# Altium footprint library HARTING Footprints.PcbLib: 317 footprints (part 10 of 20)
Each footprint in its own frame and in the unit in brackets; x right, y up, seen from the top. Pads: shape width x height; smd on the part's side, far side on the other; paste and mask are expansions set on the pad; w line width, h text height; cw(c..) or ccw(c..) is an arc to the next point about the centre after c.
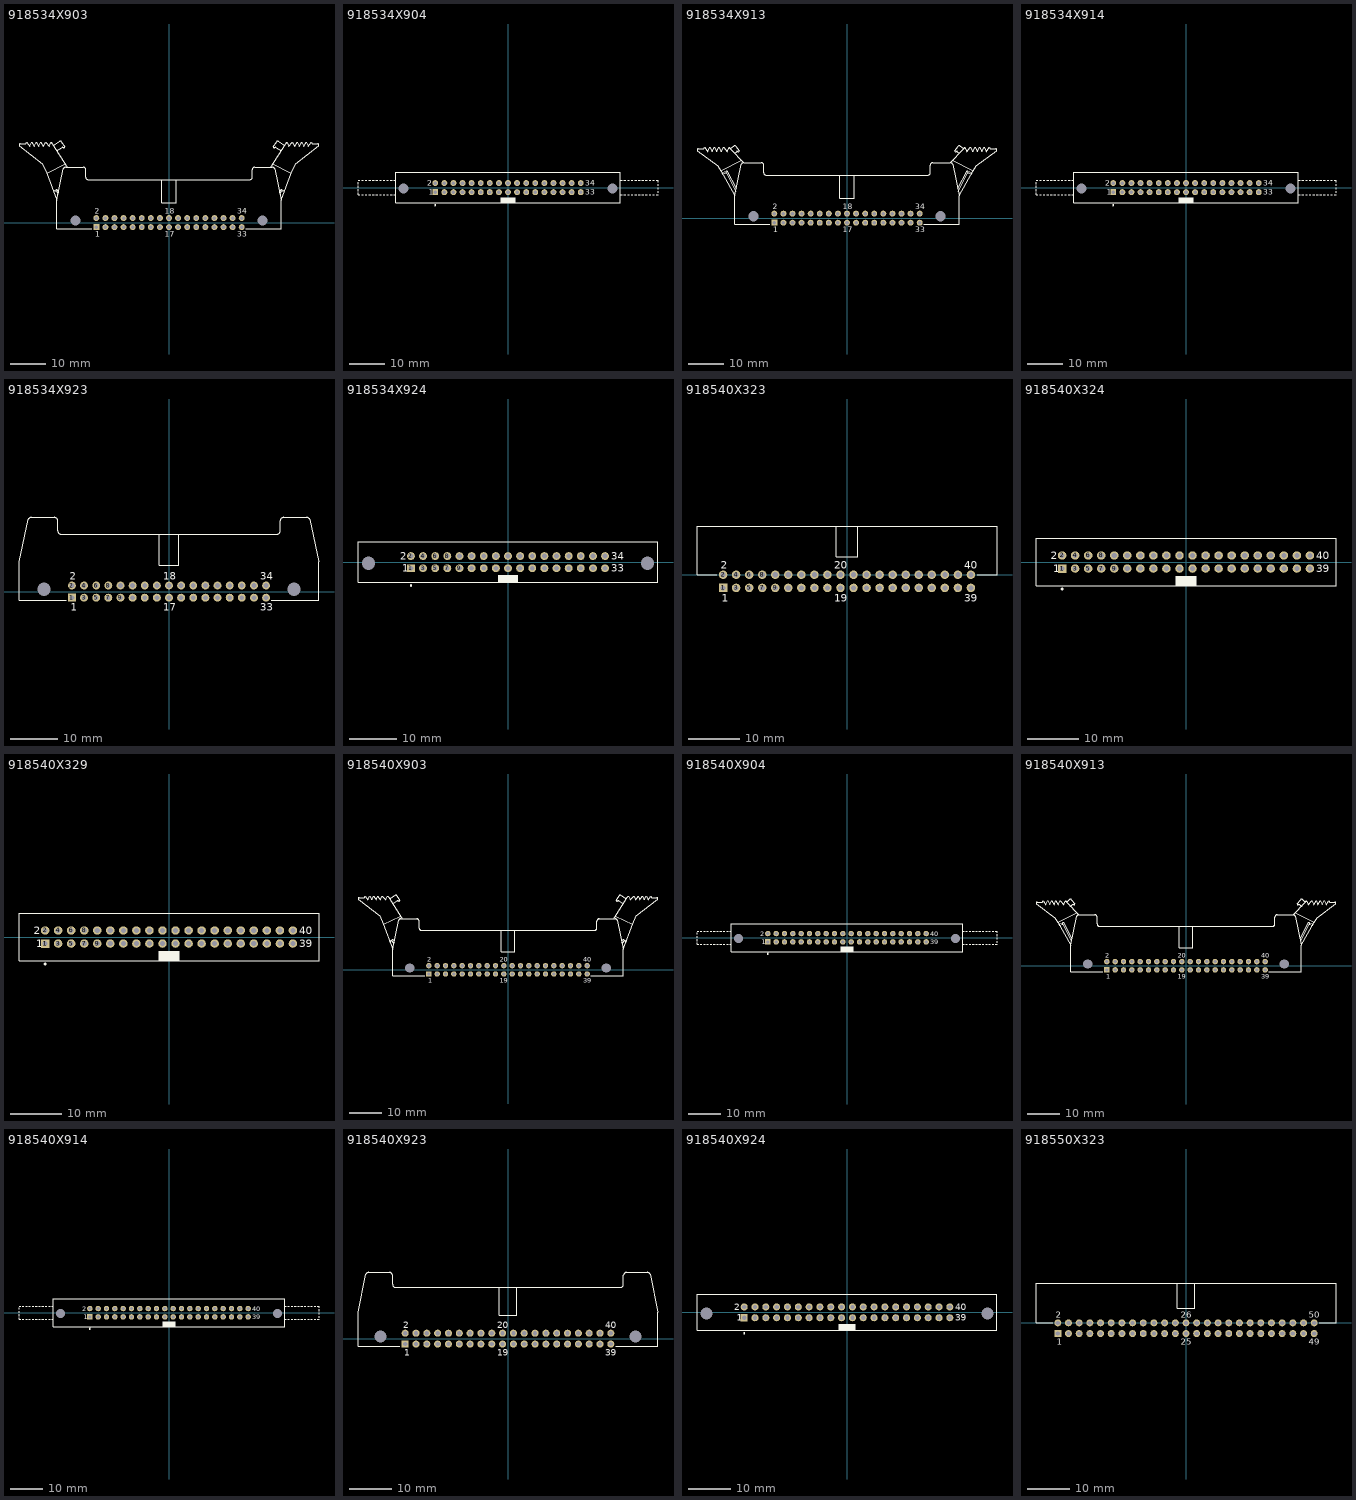
[diagram p9: the footprints below, top view; thin cyan lines are the x and y axes]

## 918534X903 [mm] "Connector; IDC, Thru-Hole; 34 Position; Right Angle; Pitch 2.54 mm; Body 62.80 x 8.5 x 25.75 mm (LxHxW), Locking levers"
height 25.75
pads (36):
  rect 1.65x1.65 hole 1: 1(-20.32,-1.27)
  round 1.65 hole 1: 2(-20.32,1.27) 3(-17.78,-1.27) 4(-17.78,1.27) 5(-15.24,-1.27) 6(-15.24,1.27) 7(-12.7,-1.27) 8(-12.7,1.27) 9(-10.16,-1.27) 10(-10.16,1.27) 11(-7.62,-1.27) 12(-7.62,1.27) 13(-5.08,-1.27) 14(-5.08,1.27) 15(-2.54,-1.27) 16(-2.54,1.27) 17(0,-1.27) 18(0,1.27) 19(2.54,-1.27) 20(2.54,1.27) 21(5.08,-1.27) 22(5.08,1.27) 23(7.62,-1.27) 24(7.62,1.27) 25(10.16,-1.27) 26(10.16,1.27) 27(12.7,-1.27) 28(12.7,1.27) 29(15.24,-1.27) 30(15.24,1.27) 31(17.78,-1.27) 32(17.78,1.27) 33(20.32,-1.27) 34(20.32,1.27)
  round 2.5 hole 2.8 unplated: MH1(-26.16,0.53) MH2(26.16,0.53)
Top Overlay:
  lines w0.2: -32.37,8.851 -31.405,9.3 ; -32.241,8.563 -31.57,8.877 ; -32.235,21.6 -30.512,22.725 cw(c-30.363,22.387) -30.097,22.644 -29.172,21.245 cw(c-29.492,21.225) -29.544,20.91 ccw(c-29.812,20.595) -29.947,20.985 ; -31.313,20.103 -29.95,20.991 ; -31.043,7.925 -31.57,8.877 ; -30.943,8.378 -31.405,9.3 ; -29.015,16.383 -34.239,13.84 ; -28.444,15.53 -32.578,22.058 ccw(c-32.901,21.956) -33.043,22.265 -33.45,21.301 -34.48,22.501 -35.11,21.301 -35.86,22.501 -36.41,21.301 -37.11,22.501 -37.73,21.301 -38.38,22.501 -38.98,21.301 -39.725,22.501 ; -21.545,-1.77 -31.4,-1.77 -31.4,6.23 ; -2.05,5.53 -2.05,12.03 ; -2.04,5.53 2.06,5.53 ; 2.05,5.534 2.05,12.03 ; 21.43,-1.77 31.4,-1.77 31.4,6.23 ; 28.444,15.53 32.578,22.058 cw(c32.901,21.956) 33.043,22.265 33.45,21.301 34.48,22.501 35.11,21.301 35.86,22.501 36.41,21.301 37.11,22.501 37.73,21.301 38.38,22.501 38.98,21.301 39.725,22.501 ; 29.015,16.383 34.239,13.84 ; 29.947,20.985 ccw(c29.812,20.595) 29.544,20.91 cw(c29.492,21.225) 29.172,21.245 30.097,22.644 cw(c30.363,22.387) 30.512,22.725 32.235,21.6 ; 29.95,20.991 31.313,20.103 ; 30.943,8.378 31.405,9.3 ; 31.043,7.925 31.57,8.877 ; 32.241,8.563 31.57,8.877 ; 32.37,8.851 31.405,9.3 ; -39.98,22.03 -39.725,22.501 ; -39.98,22.03 -39.725,22.501 ; -39.98,22.03 -41.591,22.03 ccw(c-41.591,21.69) -41.9,21.549 -35.365,16.455 -34.239,13.84 ; -34.239,13.84 -31.4,6.23 ; -31.57,8.877 -31.405,9.3 ; -31.4,6.23 -29.51,15.102 cw(c-28.865,14.83) -28.85,15.53 -24.005,15.53 cw(c-24.005,14.83) -23.305,14.83 -23.305,12.73 ccw(c-22.605,12.73) -22.605,12.03 22.605,12.03 ccw(c22.605,12.73) 23.305,12.73 23.305,14.83 cw(c24.005,14.83) 24.005,15.53 28.85,15.53 cw(c28.865,14.83) 29.51,15.102 31.4,6.23 ; 31.4,6.23 34.239,13.84 ; 31.405,9.3 31.57,8.877 ; 34.239,13.84 35.365,16.455 41.9,21.549 ccw(c41.591,21.69) 41.591,22.03 39.98,22.03 ; 39.725,22.501 39.98,22.03 ; 39.725,22.501 39.98,22.03
  text "33" at 19.07,-3.97 h1.5
  text "34" at 19.07,2.47 h1.5
  text "1" at -20.57,-3.97 h1.5
  text "2" at -20.82,2.47 h1.5
  text "18" at -1.25,2.47 h1.5
  text "17" at -1.25,-3.97 h1.5

## 918534X904 [mm] "Connector; IDC, Thru-Hole; 34 Position; Vertical; Pitch 2.54 mm; Body 62.80 x 8.5 x 25.75 mm (LxWxH), Locking levers"
height 25.75
pads (36):
  rect 1.65x1.65 hole 1: 1(-20.32,-1.27)
  round 1.65 hole 1: 2(-20.32,1.27) 3(-17.78,-1.27) 4(-17.78,1.27) 5(-15.24,-1.27) 6(-15.24,1.27) 7(-12.7,-1.27) 8(-12.7,1.27) 9(-10.16,-1.27) 10(-10.16,1.27) 11(-7.62,-1.27) 12(-7.62,1.27) 13(-5.08,-1.27) 14(-5.08,1.27) 15(-2.54,-1.27) 16(-2.54,1.27) 17(0,-1.27) 18(0,1.27) 19(2.54,-1.27) 20(2.54,1.27) 21(5.08,-1.27) 22(5.08,1.27) 23(7.62,-1.27) 24(7.62,1.27) 25(10.16,-1.27) 26(10.16,1.27) 27(12.7,-1.27) 28(12.7,1.27) 29(15.24,-1.27) 30(15.24,1.27) 31(17.78,-1.27) 32(17.78,1.27) 33(20.32,-1.27) 34(20.32,1.27)
  round 2.5 hole 2.8 unplated: MH1(-29.21,-0.25) MH2(29.21,-0.25)
Top Overlay:
  circle w0.25: c-20.32,-4.9 r0.125
  rectangle: -2.05,-4.25 2.05,-2.7
  lines w0.2: -41.9,-1 -41.9,-0.5 ; -41.9,0 -41.9,0.5 ; -41.9,1 -41.9,1.5 ; -41.9,2 -41.39,2 ; -41.89,-1.5 -41.9,-2 -41.39,-2 ; -40.89,-2 -40.39,-2 ; -40.89,2 -40.39,2 ; -39.89,-2 -39.39,-2 ; -39.89,2 -39.39,2 ; -38.89,-2 -38.39,-2 ; -38.89,2 -38.39,2 ; -37.89,-2 -37.39,-2 ; -37.89,2 -37.39,2 ; -36.89,-2 -36.39,-2 ; -36.89,2 -36.39,2 ; -35.89,-2 -35.39,-2 ; -35.89,2 -35.39,2 ; -34.89,-2 -34.39,-2 ; -34.89,2 -34.39,2 ; -33.89,-2 -33.39,-2 ; -33.89,2 -33.39,2 ; -32.89,-2 -32.39,-2 ; -32.89,2 -32.39,2 ; -31.89,-2 -31.4,-2 ; -31.89,2 -31.4,2 ; 31.4,-2 31.9,-2 ; 31.4,2 31.9,2 ; 32.4,-2 32.9,-2 ; 32.4,2 32.9,2 ; 33.4,-2 33.9,-2 ; 33.4,2 33.9,2 ; 34.4,-2 34.9,-2 ; 34.4,2 34.9,2 ; 35.4,-2 35.9,-2 ; 35.4,2 35.9,2 ; 36.4,-2 36.9,-2 ; 36.4,2 36.9,2 ; 37.4,-2 37.9,-2 ; 37.4,2 37.9,2 ; 38.4,-2 38.9,-2 ; 38.4,2 38.9,2 ; 39.4,-2 39.9,-2 ; 39.4,2 39.9,2 ; 40.4,-2 40.9,-2 ; 40.4,2 40.9,2 ; 41.4,-2 41.9,-2 ; 41.4,2 41.9,2 41.9,1.5 ; 41.9,-1.5 41.9,-1 ; 41.9,-0.5 41.9,0 ; 41.9,0.5 41.9,1 ; -31.4,-4.25 31.4,-4.25 31.4,4.25 -31.4,4.25 -31.4,-4.25
  text "33" at 21.6,-2.02 h1.5
  text "34" at 21.6,0.52 h1.5
  text "1" at -22.1,-2.02 h1.5
  text "2" at -22.6,0.52 h1.5

## 918534X913 [mm] "Connector; IDC, Thru-Hole; 34 Position; Right Angle; Pitch 2.54 mm; Body 62.80 x 8.5 x 23.30 mm (LxHxW), Locking levers"
height 23.3
pads (36):
  rect 1.65x1.65 hole 1: 1(-20.32,-1.27)
  round 1.65 hole 1: 2(-20.32,1.27) 3(-17.78,-1.27) 4(-17.78,1.27) 5(-15.24,-1.27) 6(-15.24,1.27) 7(-12.7,-1.27) 8(-12.7,1.27) 9(-10.16,-1.27) 10(-10.16,1.27) 11(-7.62,-1.27) 12(-7.62,1.27) 13(-5.08,-1.27) 14(-5.08,1.27) 15(-2.54,-1.27) 16(-2.54,1.27) 17(0,-1.27) 18(0,1.27) 19(2.54,-1.27) 20(2.54,1.27) 21(5.08,-1.27) 22(5.08,1.27) 23(7.62,-1.27) 24(7.62,1.27) 25(10.16,-1.27) 26(10.16,1.27) 27(12.7,-1.27) 28(12.7,1.27) 29(15.24,-1.27) 30(15.24,1.27) 31(17.78,-1.27) 32(17.78,1.27) 33(20.32,-1.27) 34(20.32,1.27)
  round 2.5 hole 2.8 unplated: MH1(-26.16,0.53) MH2(26.16,0.53)
Top Overlay:
  lines w0.2: -35.069,12.722 -33.581,13.218 ; -34.841,12.377 -33.823,12.716 ; -31.438,18.198 -30.873,18.617 cw(c-30.737,18.227) -30.47,18.542 ccw(c-30.417,18.857) -30.098,18.877 -31.157,20.156 ccw(c-31.423,19.899) -31.572,20.238 -32.578,19.388 ; -31.153,7.442 -33.823,12.716 ; -31.006,8.195 -33.581,13.218 ; -29.52,16.204 -35.339,13.199 ; -28.907,15.533 -32.578,19.388 ; -21.545,-1.77 -31.4,-1.77 -31.4,6.23 ; -2.05,5.53 -2.05,12.03 ; -2.04,5.53 2.06,5.53 ; 2.05,5.534 2.05,12.03 ; 21.43,-1.77 31.4,-1.77 31.4,6.23 ; 28.907,15.533 32.578,19.388 ; 29.52,16.204 35.339,13.199 ; 31.006,8.195 33.581,13.218 ; 31.153,7.442 33.823,12.716 ; 31.438,18.198 30.873,18.617 ccw(c30.737,18.227) 30.47,18.542 cw(c30.417,18.857) 30.098,18.877 31.157,20.156 cw(c31.423,19.899) 31.572,20.238 32.578,19.388 ; 34.841,12.377 33.823,12.716 ; 35.069,12.722 33.581,13.218 ; -39.98,19.359 -39.724,19.83 ; -39.98,19.359 -39.724,19.83 ; -39.98,19.359 -41.591,19.359 ccw(c-41.591,19.02) -41.9,18.879 -36.145,14.654 -35.339,13.199 ; -39.724,19.83 -38.98,18.63 -38.38,19.83 -37.73,18.63 -37.11,19.83 -36.41,18.63 -35.86,19.83 -35.11,18.63 -34.48,19.83 -33.45,18.63 -33.043,19.594 cw(c-32.901,19.285) -32.578,19.388 ; -35.339,13.199 -31.4,6.23 ; -33.823,12.716 -33.581,13.218 ; -31.4,6.23 -29.51,15.102 cw(c-28.865,14.83) -28.85,15.53 -24.005,15.53 cw(c-24.005,14.83) -23.305,14.83 -23.305,12.73 ccw(c-22.605,12.73) -22.605,12.03 22.605,12.03 ccw(c22.605,12.73) 23.305,12.73 23.305,14.83 cw(c24.005,14.83) 24.005,15.53 28.85,15.53 cw(c28.865,14.83) 29.51,15.102 31.4,6.23 ; 31.4,6.23 35.339,13.199 ; 32.578,19.388 cw(c32.901,19.285) 33.043,19.594 33.45,18.63 34.48,19.83 35.11,18.63 35.86,19.83 36.41,18.63 37.11,19.83 37.73,18.63 38.38,19.83 38.98,18.63 39.724,19.83 ; 33.581,13.218 33.823,12.716 ; 35.339,13.199 36.145,14.654 41.9,18.879 ccw(c41.591,19.02) 41.591,19.359 39.98,19.359 ; 39.724,19.83 39.98,19.359 ; 39.724,19.83 39.98,19.359
  text "17" at -1.25,-3.97 h1.5
  text "18" at -1.25,2.47 h1.5
  text "33" at 19.07,-3.97 h1.5
  text "34" at 19.07,2.47 h1.5
  text "1" at -20.57,-3.97 h1.5
  text "2" at -20.82,2.47 h1.5

## 918534X914 [mm] "Connector; IDC, Thru-Hole; 34 Position; Vertical; Pitch 2.54 mm; Body 62.80 x 8.5 x 23.30 mm (LxWxH), Locking levers"
height 23.3
pads (36):
  rect 1.65x1.65 hole 1: 1(-20.32,-1.27)
  round 1.65 hole 1: 2(-20.32,1.27) 3(-17.78,-1.27) 4(-17.78,1.27) 5(-15.24,-1.27) 6(-15.24,1.27) 7(-12.7,-1.27) 8(-12.7,1.27) 9(-10.16,-1.27) 10(-10.16,1.27) 11(-7.62,-1.27) 12(-7.62,1.27) 13(-5.08,-1.27) 14(-5.08,1.27) 15(-2.54,-1.27) 16(-2.54,1.27) 17(0,-1.27) 18(0,1.27) 19(2.54,-1.27) 20(2.54,1.27) 21(5.08,-1.27) 22(5.08,1.27) 23(7.62,-1.27) 24(7.62,1.27) 25(10.16,-1.27) 26(10.16,1.27) 27(12.7,-1.27) 28(12.7,1.27) 29(15.24,-1.27) 30(15.24,1.27) 31(17.78,-1.27) 32(17.78,1.27) 33(20.32,-1.27) 34(20.32,1.27)
  round 2.5 hole 2.8 unplated: MH1(-29.21,-0.25) MH2(29.21,-0.25)
Top Overlay:
  circle w0.25: c-20.32,-4.9 r0.125
  rectangle: -2.05,-4.25 2.05,-2.7
  lines w0.2: -41.9,-1 -41.9,-0.5 ; -41.9,0 -41.9,0.5 ; -41.9,1 -41.9,1.5 ; -41.9,2 -41.39,2 ; -41.89,-1.5 -41.9,-2 -41.39,-2 ; -40.89,-2 -40.39,-2 ; -40.89,2 -40.39,2 ; -39.89,-2 -39.39,-2 ; -39.89,2 -39.39,2 ; -38.89,-2 -38.39,-2 ; -38.89,2 -38.39,2 ; -37.89,-2 -37.39,-2 ; -37.89,2 -37.39,2 ; -36.89,-2 -36.39,-2 ; -36.89,2 -36.39,2 ; -35.89,-2 -35.39,-2 ; -35.89,2 -35.39,2 ; -34.89,-2 -34.39,-2 ; -34.89,2 -34.39,2 ; -33.89,-2 -33.39,-2 ; -33.89,2 -33.39,2 ; -32.89,-2 -32.39,-2 ; -32.89,2 -32.39,2 ; -31.89,-2 -31.4,-2 ; -31.89,2 -31.4,2 ; 31.4,-2 31.9,-2 ; 31.4,2 31.9,2 ; 32.4,-2 32.9,-2 ; 32.4,2 32.9,2 ; 33.4,-2 33.9,-2 ; 33.4,2 33.9,2 ; 34.4,-2 34.9,-2 ; 34.4,2 34.9,2 ; 35.4,-2 35.9,-2 ; 35.4,2 35.9,2 ; 36.4,-2 36.9,-2 ; 36.4,2 36.9,2 ; 37.4,-2 37.9,-2 ; 37.4,2 37.9,2 ; 38.4,-2 38.9,-2 ; 38.4,2 38.9,2 ; 39.4,-2 39.9,-2 ; 39.4,2 39.9,2 ; 40.4,-2 40.9,-2 ; 40.4,2 40.9,2 ; 41.4,-2 41.9,-2 ; 41.4,2 41.9,2 41.9,1.5 ; 41.9,-1.5 41.9,-1 ; 41.9,-0.5 41.9,0 ; 41.9,0.5 41.9,1 ; -31.4,-4.25 31.4,-4.25 31.4,4.25 -31.4,4.25 -31.4,-4.25
  text "33" at 21.6,-2.02 h1.5
  text "34" at 21.6,0.52 h1.5
  text "1" at -22.1,-2.02 h1.5
  text "2" at -22.6,0.52 h1.5

## 918534X923 [mm] "Connector; IDC, Thru-Hole; 34 Position; Right Angle; Pitch 2.54 mm; Body 62.80 x 8.5 x 17.30 mm (LxHxW), Without locking levers"
height 17.3
pads (36):
  rect 1.65x1.65 hole 1: 1(-20.32,-1.27)
  round 1.65 hole 1: 2(-20.32,1.27) 3(-17.78,-1.27) 4(-17.78,1.27) 5(-15.24,-1.27) 6(-15.24,1.27) 7(-12.7,-1.27) 8(-12.7,1.27) 9(-10.16,-1.27) 10(-10.16,1.27) 11(-7.62,-1.27) 12(-7.62,1.27) 13(-5.08,-1.27) 14(-5.08,1.27) 15(-2.54,-1.27) 16(-2.54,1.27) 17(0,-1.27) 18(0,1.27) 19(2.54,-1.27) 20(2.54,1.27) 21(5.08,-1.27) 22(5.08,1.27) 23(7.62,-1.27) 24(7.62,1.27) 25(10.16,-1.27) 26(10.16,1.27) 27(12.7,-1.27) 28(12.7,1.27) 29(15.24,-1.27) 30(15.24,1.27) 31(17.78,-1.27) 32(17.78,1.27) 33(20.32,-1.27) 34(20.32,1.27)
  round 2.5 hole 2.8 unplated: MH1(-26.16,0.53) MH2(26.16,0.53)
Top Overlay:
  lines w0.2: -21.545,-1.77 -31.4,-1.77 -31.4,6.23 -29.51,15.102 cw(c-28.865,14.83) -28.85,15.53 -24.005,15.53 cw(c-24.005,14.83) -23.305,14.83 -23.305,12.73 ccw(c-22.605,12.73) -22.605,12.03 22.605,12.03 ccw(c22.605,12.73) 23.305,12.73 23.305,14.83 cw(c24.005,14.83) 24.005,15.53 28.85,15.53 cw(c28.865,14.83) 29.51,15.102 31.4,6.23 31.4,-1.77 21.43,-1.77 ; -2.05,5.53 -2.05,12.03 ; -2.04,5.53 2.06,5.53 ; 2.05,5.534 2.05,12.03
  text "33" at 19.07,-3.97 h1.5
  text "34" at 19.07,2.47 h1.5
  text "1" at -20.57,-3.97 h1.5
  text "2" at -20.82,2.47 h1.5
  text "18" at -1.25,2.47 h1.5
  text "17" at -1.25,-3.97 h1.5

## 918534X924 [mm] "Connector; IDC, Thru-Hole; 34 Position; Vertical; Pitch 2.54 mm; Body 62.80 x 8.5 x 17.30 mm (LxWxH), Without locking levers"
height 17.3
pads (36):
  rect 1.65x1.65 hole 1: 1(-20.32,-1.27)
  round 1.65 hole 1: 2(-20.32,1.27) 3(-17.78,-1.27) 4(-17.78,1.27) 5(-15.24,-1.27) 6(-15.24,1.27) 7(-12.7,-1.27) 8(-12.7,1.27) 9(-10.16,-1.27) 10(-10.16,1.27) 11(-7.62,-1.27) 12(-7.62,1.27) 13(-5.08,-1.27) 14(-5.08,1.27) 15(-2.54,-1.27) 16(-2.54,1.27) 17(0,-1.27) 18(0,1.27) 19(2.54,-1.27) 20(2.54,1.27) 21(5.08,-1.27) 22(5.08,1.27) 23(7.62,-1.27) 24(7.62,1.27) 25(10.16,-1.27) 26(10.16,1.27) 27(12.7,-1.27) 28(12.7,1.27) 29(15.24,-1.27) 30(15.24,1.27) 31(17.78,-1.27) 32(17.78,1.27) 33(20.32,-1.27) 34(20.32,1.27)
  round 2.5 hole 2.8 unplated: MH1(-29.21,-0.25) MH2(29.21,-0.25)
Top Overlay:
  circle w0.25: c-20.32,-4.9 r0.125
  rectangle: -2.05,-4.25 2.05,-2.7
  lines w0.2: -31.4,-4.25 -31.4,4.25 31.4,4.25 31.4,-4.25 -31.4,-4.25
  text "2" at -22.6,0.52 h1.5
  text "1" at -22.1,-2.02 h1.5
  text "34" at 21.6,0.52 h1.5
  text "33" at 21.6,-2.02 h1.5

## 918540X323 [mm] "Connector; IDC, Low Profile Male Header, Thru-Hole; 40 Position; Right Angle; Pitch 2.54 mm; Body 58.42 x 8.9 x 9.2 mm (LxWxH)"
height 9.2
pads (40):
  rect 1.65x1.65 hole 1: 1(-24.13,-2.54)
  round 1.65 hole 1: 2(-24.13,0) 3(-21.59,-2.54) 4(-21.59,0) 5(-19.05,-2.54) 6(-19.05,0) 7(-16.51,-2.54) 8(-16.51,0) 9(-13.97,-2.54) 10(-13.97,0) 11(-11.43,-2.54) 12(-11.43,0) 13(-8.89,-2.54) 14(-8.89,0) 15(-6.35,-2.54) 16(-6.35,0) 17(-3.81,-2.54) 18(-3.81,0) 19(-1.27,-2.54) 20(-1.27,0) 21(1.27,-2.54) 22(1.27,0) 23(3.81,-2.54) 24(3.81,0) 25(6.35,-2.54) 26(6.35,0) 27(8.89,-2.54) 28(8.89,0) 29(11.43,-2.54) 30(11.43,0) 31(13.97,-2.54) 32(13.97,0) 33(16.51,-2.54) 34(16.51,0) 35(19.05,-2.54) 36(19.05,0) 37(21.59,-2.54) 38(21.59,0) 39(24.13,-2.54) 40(24.13,0)
Top Overlay:
  lines w0.2: -25.355,0 -29.21,0 -29.21,9.45 29.21,9.45 29.21,0 25.355,0 ; -2.05,9.45 -2.05,3.48 2.05,3.48 2.05,9.45
  text "19" at -2.52,-5.24 h1.5
  text "20" at -2.52,1.2 h1.5
  text "2" at -24.63,1.2 h1.5
  text "1" at -24.38,-5.24 h1.5
  text "40" at 22.88,1.2 h1.5
  text "39" at 22.88,-5.24 h1.5

## 918540X324 [mm] "Connector; IDC, Low Profile Male Header, Thru-Hole; 40 Position; Vertical; Pitch 2.54 mm; Body 58.42 x 9.2 x 9.45 mm (LxWxH)"
height 9.45
pads (40):
  rect 1.65x1.65 hole 1: 1(-24.13,-1.27)
  round 1.65 hole 1: 2(-24.13,1.27) 3(-21.59,-1.27) 4(-21.59,1.27) 5(-19.05,-1.27) 6(-19.05,1.27) 7(-16.51,-1.27) 8(-16.51,1.27) 9(-13.97,-1.27) 10(-13.97,1.27) 11(-11.43,-1.27) 12(-11.43,1.27) 13(-8.89,-1.27) 14(-8.89,1.27) 15(-6.35,-1.27) 16(-6.35,1.27) 17(-3.81,-1.27) 18(-3.81,1.27) 19(-1.27,-1.27) 20(-1.27,1.27) 21(1.27,-1.27) 22(1.27,1.27) 23(3.81,-1.27) 24(3.81,1.27) 25(6.35,-1.27) 26(6.35,1.27) 27(8.89,-1.27) 28(8.89,1.27) 29(11.43,-1.27) 30(11.43,1.27) 31(13.97,-1.27) 32(13.97,1.27) 33(16.51,-1.27) 34(16.51,1.27) 35(19.05,-1.27) 36(19.05,1.27) 37(21.59,-1.27) 38(21.59,1.27) 39(24.13,-1.27) 40(24.13,1.27)
Top Overlay:
  circle w0.25: c-24.13,-5.25 r0.125
  rectangle: -2.05,-4.6 2.05,-2.7
  lines w0.2: -29.21,-4.6 29.21,-4.6 29.21,4.6 -29.21,4.6 -29.21,-4.6
  text "39" at 25.33,-2.02 h1.5
  text "40" at 25.33,0.52 h1.5
  text "1" at -25.83,-2.02 h1.5
  text "2" at -26.33,0.52 h1.5

## 918540X329 [mm] "Connector; IDC, Straight Press-in Pin, Thru-Hole; 40 Position; Vertical; Pitch 2.54 mm; Body 58.42 x 9.2 x 9.45 mm (LxWxH)"
height 9.45
pads (40):
  rect 1.65x1.65 hole 1: 1(-24.13,-1.27)
  round 1.65 hole 1: 2(-24.13,1.27) 3(-21.59,-1.27) 4(-21.59,1.27) 5(-19.05,-1.27) 6(-19.05,1.27) 7(-16.51,-1.27) 8(-16.51,1.27) 9(-13.97,-1.27) 10(-13.97,1.27) 11(-11.43,-1.27) 12(-11.43,1.27) 13(-8.89,-1.27) 14(-8.89,1.27) 15(-6.35,-1.27) 16(-6.35,1.27) 17(-3.81,-1.27) 18(-3.81,1.27) 19(-1.27,-1.27) 20(-1.27,1.27) 21(1.27,-1.27) 22(1.27,1.27) 23(3.81,-1.27) 24(3.81,1.27) 25(6.35,-1.27) 26(6.35,1.27) 27(8.89,-1.27) 28(8.89,1.27) 29(11.43,-1.27) 30(11.43,1.27) 31(13.97,-1.27) 32(13.97,1.27) 33(16.51,-1.27) 34(16.51,1.27) 35(19.05,-1.27) 36(19.05,1.27) 37(21.59,-1.27) 38(21.59,1.27) 39(24.13,-1.27) 40(24.13,1.27)
Top Overlay:
  circle w0.25: c-24.13,-5.25 r0.125
  rectangle: -2.05,-4.6 2.05,-2.7
  lines w0.2: -29.21,-4.6 29.21,-4.6 29.21,4.6 -29.21,4.6 -29.21,-4.6
  text "39" at 25.33,-2.02 h1.5
  text "40" at 25.33,0.52 h1.5
  text "1" at -25.83,-2.02 h1.5
  text "2" at -26.33,0.52 h1.5

## 918540X903 [mm] "Connector; IDC, Thru-Hole; 40 Position; Right Angle; Pitch 2.54 mm; Body 70.40 x 8.5 x 25.75 mm (LxHxW), Locking levers"
height 25.75
pads (42):
  rect 1.65x1.65 hole 1: 1(-24.13,-1.27)
  round 1.65 hole 1: 2(-24.13,1.27) 3(-21.59,-1.27) 4(-21.59,1.27) 5(-19.05,-1.27) 6(-19.05,1.27) 7(-16.51,-1.27) 8(-16.51,1.27) 9(-13.97,-1.27) 10(-13.97,1.27) 11(-11.43,-1.27) 12(-11.43,1.27) 13(-8.89,-1.27) 14(-8.89,1.27) 15(-6.35,-1.27) 16(-6.35,1.27) 17(-3.81,-1.27) 18(-3.81,1.27) 19(-1.27,-1.27) 20(-1.27,1.27) 21(1.27,-1.27) 22(1.27,1.27) 23(3.81,-1.27) 24(3.81,1.27) 25(6.35,-1.27) 26(6.35,1.27) 27(8.89,-1.27) 28(8.89,1.27) 29(11.43,-1.27) 30(11.43,1.27) 31(13.97,-1.27) 32(13.97,1.27) 33(16.51,-1.27) 34(16.51,1.27) 35(19.05,-1.27) 36(19.05,1.27) 37(21.59,-1.27) 38(21.59,1.27) 39(24.13,-1.27) 40(24.13,1.27)
  round 2.5 hole 2.8 unplated: MH1(-29.97,0.53) MH2(29.97,0.53)
Top Overlay:
  lines w0.2: -36.17,8.851 -35.205,9.3 ; -36.041,8.563 -35.37,8.877 ; -36.035,21.6 -34.312,22.725 cw(c-34.163,22.387) -33.897,22.644 -32.972,21.245 cw(c-33.292,21.225) -33.344,20.91 ccw(c-33.612,20.595) -33.747,20.985 ; -35.113,20.103 -33.75,20.991 ; -34.843,7.925 -35.37,8.877 ; -34.743,8.378 -35.205,9.3 ; -33.37,15.102 cw(c-32.725,14.83) -32.71,15.53 ; -32.815,16.383 -38.039,13.84 ; -32.65,15.53 ccw(c-32.665,14.83) -33.31,15.102 -35.2,6.23 ; -32.244,15.53 -36.378,22.058 ccw(c-36.701,21.956) -36.843,22.265 -37.25,21.301 -38.28,22.501 -38.91,21.301 -39.66,22.501 -40.21,21.301 -40.91,22.501 -41.53,21.301 -42.18,22.501 -42.78,21.301 -43.525,22.501 ; -25.355,-1.77 -35.2,-1.77 -35.2,6.23 ; -2.05,5.53 -2.05,12.03 ; -2.04,5.53 2.06,5.53 ; 2.05,5.534 2.05,12.03 ; 25.24,-1.77 35.2,-1.77 35.2,6.23 ; 32.244,15.53 36.378,22.058 cw(c36.701,21.956) 36.843,22.265 37.25,21.301 38.28,22.501 38.91,21.301 39.66,22.501 40.21,21.301 40.91,22.501 41.53,21.301 42.18,22.501 42.78,21.301 43.525,22.501 ; 32.65,15.53 cw(c32.665,14.83) 33.31,15.102 35.2,6.23 ; 32.66,15.53 27.8,15.53 ccw(c27.8,14.83) 27.1,14.83 27.1,12.73 cw(c26.4,12.73) 26.4,12.03 -26.4,12.03 cw(c-26.4,12.73) -27.1,12.73 -27.1,14.83 ccw(c-27.8,14.83) -27.8,15.53 ; 32.815,16.383 38.039,13.84 ; 33.747,20.985 ccw(c33.612,20.595) 33.344,20.91 cw(c33.292,21.225) 32.972,21.245 33.897,22.644 cw(c34.163,22.387) 34.312,22.725 36.035,21.6 ; 33.75,20.991 35.113,20.103 ; 34.743,8.378 35.205,9.3 ; 34.843,7.925 35.37,8.877 ; 36.041,8.563 35.37,8.877 ; 36.17,8.851 35.205,9.3 ; -43.78,22.03 -43.525,22.501 ; -43.78,22.03 -43.525,22.501 ; -43.78,22.03 -45.391,22.03 ccw(c-45.391,21.69) -45.7,21.549 -39.165,16.455 -38.039,13.84 ; -38.039,13.84 -35.2,6.23 ; -35.37,8.877 -35.205,9.3 ; -27.8,15.53 -32.66,15.53 -27.8,15.53 ; 35.2,6.23 38.039,13.84 ; 35.205,9.3 35.37,8.877 ; 38.039,13.84 39.165,16.455 45.7,21.549 ccw(c45.391,21.69) 45.391,22.03 43.78,22.03 ; 43.525,22.501 43.78,22.03 ; 43.525,22.501 43.78,22.03
  text "39" at 22.88,-3.97 h1.5
  text "40" at 22.88,2.47 h1.5
  text "1" at -24.38,-3.97 h1.5
  text "2" at -24.63,2.47 h1.5
  text "20" at -2.52,2.47 h1.5
  text "19" at -2.52,-3.97 h1.5

## 918540X904 [mm] "Connector; IDC, Thru-Hole; 40 Position; Vertical; Pitch 2.54 mm; Body 70.40 x 8.5 x 25.75 mm (LxWxH), Locking levers"
height 25.75
pads (42):
  rect 1.65x1.65 hole 1: 1(-24.13,-1.27)
  round 1.65 hole 1: 2(-24.13,1.27) 3(-21.59,-1.27) 4(-21.59,1.27) 5(-19.05,-1.27) 6(-19.05,1.27) 7(-16.51,-1.27) 8(-16.51,1.27) 9(-13.97,-1.27) 10(-13.97,1.27) 11(-11.43,-1.27) 12(-11.43,1.27) 13(-8.89,-1.27) 14(-8.89,1.27) 15(-6.35,-1.27) 16(-6.35,1.27) 17(-3.81,-1.27) 18(-3.81,1.27) 19(-1.27,-1.27) 20(-1.27,1.27) 21(1.27,-1.27) 22(1.27,1.27) 23(3.81,-1.27) 24(3.81,1.27) 25(6.35,-1.27) 26(6.35,1.27) 27(8.89,-1.27) 28(8.89,1.27) 29(11.43,-1.27) 30(11.43,1.27) 31(13.97,-1.27) 32(13.97,1.27) 33(16.51,-1.27) 34(16.51,1.27) 35(19.05,-1.27) 36(19.05,1.27) 37(21.59,-1.27) 38(21.59,1.27) 39(24.13,-1.27) 40(24.13,1.27)
  round 2.5 hole 2.8 unplated: MH1(-33.02,-0.25) MH2(33.02,-0.25)
Top Overlay:
  circle w0.25: c-24.13,-4.9 r0.125
  rectangle: -2.05,-4.25 2.05,-2.7
  lines w0.2: -45.7,-1.5 -45.7,-2 -45.2,-2 ; -45.7,-1 -45.7,-0.5 ; -45.7,0 -45.7,0.5 ; -45.7,1 -45.7,1.5 ; -45.7,2 -45.2,2 ; -44.7,-2 -44.2,-2 ; -44.7,2 -44.2,2 ; -43.7,-2 -43.2,-2 ; -43.7,2 -43.2,2 ; -42.7,-2 -42.2,-2 ; -42.7,2 -42.2,2 ; -41.7,-2 -41.2,-2 ; -41.7,2 -41.2,2 ; -40.7,-2 -40.2,-2 ; -40.7,2 -40.2,2 ; -39.7,-2 -39.2,-2 ; -39.7,2 -39.2,2 ; -38.7,-2 -38.2,-2 ; -38.7,2 -38.2,2 ; -37.7,-2 -37.2,-2 ; -37.7,2 -37.2,2 ; -36.7,-2 -36.2,-2 ; -36.7,2 -36.2,2 ; -35.7,-2 -35.2,-2 ; -35.7,2 -35.2,2 ; 35.2,-2 35.7,-2 ; 35.2,2 35.7,2 ; 36.2,-2 36.7,-2 ; 36.2,2 36.7,2 ; 37.2,-2 37.7,-2 ; 37.2,2 37.7,2 ; 38.2,-2 38.7,-2 ; 38.2,2 38.7,2 ; 39.2,-2 39.7,-2 ; 39.2,2 39.7,2 ; 40.2,-2 40.7,-2 ; 40.2,2 40.7,2 ; 41.2,-2 41.7,-2 ; 41.2,2 41.7,2 ; 42.2,-2 42.7,-2 ; 42.2,2 42.7,2 ; 43.2,-2 43.7,-2 ; 43.2,2 43.7,2 ; 44.2,-2 44.7,-2 ; 44.2,2 44.7,2 ; 45.2,-2 45.7,-2 ; 45.2,2 45.7,2 45.7,1.5 ; 45.7,-1.5 45.7,-1 ; 45.7,-0.5 45.7,0 ; 45.7,0.5 45.7,1 ; -35.2,-4.25 -35.2,4.25 35.2,4.25 35.2,-4.25 -35.2,-4.25
  text "2" at -26.41,0.52 h1.5
  text "1" at -25.91,-2.02 h1.5
  text "40" at 25.41,0.52 h1.5
  text "39" at 25.41,-2.02 h1.5

## 918540X913 [mm] "Connector; IDC, Thru-Hole; 40 Position; Right Angle; Pitch 2.54 mm; Body 70.40 x 8.5 x 23.30 mm (LxHxW), Locking levers"
height 23.3
pads (42):
  rect 1.65x1.65 hole 1: 1(-24.13,-1.27)
  round 1.65 hole 1: 2(-24.13,1.27) 3(-21.59,-1.27) 4(-21.59,1.27) 5(-19.05,-1.27) 6(-19.05,1.27) 7(-16.51,-1.27) 8(-16.51,1.27) 9(-13.97,-1.27) 10(-13.97,1.27) 11(-11.43,-1.27) 12(-11.43,1.27) 13(-8.89,-1.27) 14(-8.89,1.27) 15(-6.35,-1.27) 16(-6.35,1.27) 17(-3.81,-1.27) 18(-3.81,1.27) 19(-1.27,-1.27) 20(-1.27,1.27) 21(1.27,-1.27) 22(1.27,1.27) 23(3.81,-1.27) 24(3.81,1.27) 25(6.35,-1.27) 26(6.35,1.27) 27(8.89,-1.27) 28(8.89,1.27) 29(11.43,-1.27) 30(11.43,1.27) 31(13.97,-1.27) 32(13.97,1.27) 33(16.51,-1.27) 34(16.51,1.27) 35(19.05,-1.27) 36(19.05,1.27) 37(21.59,-1.27) 38(21.59,1.27) 39(24.13,-1.27) 40(24.13,1.27)
  round 2.5 hole 2.8 unplated: MH1(-29.97,0.53) MH2(29.97,0.53)
Top Overlay:
  lines w0.2: -38.869,12.722 -37.381,13.218 ; -38.641,12.377 -37.623,12.716 ; -35.238,18.198 -34.673,18.617 cw(c-34.537,18.227) -34.27,18.542 ccw(c-34.217,18.857) -33.898,18.877 -34.957,20.156 ccw(c-35.223,19.899) -35.372,20.238 -36.378,19.388 ; -34.953,7.442 -37.623,12.716 ; -34.806,8.195 -37.381,13.218 ; -33.37,15.102 cw(c-32.725,14.83) -32.71,15.53 ; -33.32,16.204 -39.139,13.199 ; -32.707,15.533 -36.378,19.388 ; -32.65,15.53 ccw(c-32.665,14.83) -33.31,15.102 -35.2,6.23 ; -25.355,-1.77 -35.2,-1.77 -35.2,6.23 ; -2.05,5.53 -2.05,12.03 ; -2.04,5.53 2.06,5.53 ; 2.05,5.534 2.05,12.03 ; 25.24,-1.77 35.2,-1.77 35.2,6.23 ; 32.65,15.53 cw(c32.665,14.83) 33.31,15.102 35.2,6.23 ; 32.66,15.53 27.8,15.53 ccw(c27.8,14.83) 27.1,14.83 27.1,12.73 cw(c26.4,12.73) 26.4,12.03 -26.4,12.03 cw(c-26.4,12.73) -27.1,12.73 -27.1,14.83 ccw(c-27.8,14.83) -27.8,15.53 ; 32.707,15.533 36.378,19.388 ; 33.32,16.204 39.139,13.199 ; 34.806,8.195 37.381,13.218 ; 34.953,7.442 37.623,12.716 ; 35.238,18.198 34.673,18.617 ccw(c34.537,18.227) 34.27,18.542 cw(c34.217,18.857) 33.898,18.877 34.957,20.156 cw(c35.223,19.899) 35.372,20.238 36.378,19.388 ; 38.641,12.377 37.623,12.716 ; 38.869,12.722 37.381,13.218 ; -43.78,19.359 -45.391,19.359 ccw(c-45.391,19.02) -45.7,18.879 -39.945,14.654 -39.139,13.199 ; -43.78,19.359 -43.524,19.83 ; -43.78,19.359 -43.524,19.83 ; -43.524,19.83 -42.78,18.63 -42.18,19.83 -41.53,18.63 -40.91,19.83 -40.21,18.63 -39.66,19.83 -38.91,18.63 -38.28,19.83 -37.25,18.63 -36.843,19.594 cw(c-36.701,19.285) -36.378,19.388 ; -39.139,13.199 -35.2,6.23 ; -37.623,12.716 -37.381,13.218 ; -27.8,15.53 -32.66,15.53 -27.8,15.53 ; 35.2,6.23 39.139,13.199 ; 36.378,19.388 cw(c36.701,19.285) 36.843,19.594 37.25,18.63 38.28,19.83 38.91,18.63 39.66,19.83 40.21,18.63 40.91,19.83 41.53,18.63 42.18,19.83 42.78,18.63 43.524,19.83 ; 37.381,13.218 37.623,12.716 ; 39.139,13.199 39.945,14.654 45.7,18.879 ccw(c45.391,19.02) 45.391,19.359 43.78,19.359 ; 43.524,19.83 43.78,19.359 ; 43.524,19.83 43.78,19.359
  text "39" at 22.88,-3.97 h1.5
  text "40" at 22.88,2.47 h1.5
  text "1" at -24.38,-3.97 h1.5
  text "2" at -24.63,2.47 h1.5
  text "20" at -2.52,2.47 h1.5
  text "19" at -2.52,-3.97 h1.5

## 918540X914 [mm] "Connector; IDC, Thru-Hole; 40 Position; Vertical; Pitch 2.54 mm; Body 70.40 x 8.5 x 23.30 mm (LxWxH), Locking levers"
height 23.3
pads (42):
  rect 1.65x1.65 hole 1: 1(-24.13,-1.27)
  round 1.65 hole 1: 2(-24.13,1.27) 3(-21.59,-1.27) 4(-21.59,1.27) 5(-19.05,-1.27) 6(-19.05,1.27) 7(-16.51,-1.27) 8(-16.51,1.27) 9(-13.97,-1.27) 10(-13.97,1.27) 11(-11.43,-1.27) 12(-11.43,1.27) 13(-8.89,-1.27) 14(-8.89,1.27) 15(-6.35,-1.27) 16(-6.35,1.27) 17(-3.81,-1.27) 18(-3.81,1.27) 19(-1.27,-1.27) 20(-1.27,1.27) 21(1.27,-1.27) 22(1.27,1.27) 23(3.81,-1.27) 24(3.81,1.27) 25(6.35,-1.27) 26(6.35,1.27) 27(8.89,-1.27) 28(8.89,1.27) 29(11.43,-1.27) 30(11.43,1.27) 31(13.97,-1.27) 32(13.97,1.27) 33(16.51,-1.27) 34(16.51,1.27) 35(19.05,-1.27) 36(19.05,1.27) 37(21.59,-1.27) 38(21.59,1.27) 39(24.13,-1.27) 40(24.13,1.27)
  round 2.5 hole 2.8 unplated: MH1(-33.02,-0.25) MH2(33.02,-0.25)
Top Overlay:
  circle w0.25: c-24.13,-4.9 r0.125
  rectangle: -2.05,-4.25 2.05,-2.7
  lines w0.2: -45.7,-1.5 -45.7,-2 -45.2,-2 ; -45.7,-1 -45.7,-0.5 ; -45.7,0 -45.7,0.5 ; -45.7,1 -45.7,1.5 ; -45.7,2 -45.2,2 ; -44.7,-2 -44.2,-2 ; -44.7,2 -44.2,2 ; -43.7,-2 -43.2,-2 ; -43.7,2 -43.2,2 ; -42.7,-2 -42.2,-2 ; -42.7,2 -42.2,2 ; -41.7,-2 -41.2,-2 ; -41.7,2 -41.2,2 ; -40.7,-2 -40.2,-2 ; -40.7,2 -40.2,2 ; -39.7,-2 -39.2,-2 ; -39.7,2 -39.2,2 ; -38.7,-2 -38.2,-2 ; -38.7,2 -38.2,2 ; -37.7,-2 -37.2,-2 ; -37.7,2 -37.2,2 ; -36.7,-2 -36.2,-2 ; -36.7,2 -36.2,2 ; -35.7,-2 -35.2,-2 ; -35.7,2 -35.2,2 ; 35.2,-2 35.7,-2 ; 35.2,2 35.7,2 ; 36.2,-2 36.7,-2 ; 36.2,2 36.7,2 ; 37.2,-2 37.7,-2 ; 37.2,2 37.7,2 ; 38.2,-2 38.7,-2 ; 38.2,2 38.7,2 ; 39.2,-2 39.7,-2 ; 39.2,2 39.7,2 ; 40.2,-2 40.7,-2 ; 40.2,2 40.7,2 ; 41.2,-2 41.7,-2 ; 41.2,2 41.7,2 ; 42.2,-2 42.7,-2 ; 42.2,2 42.7,2 ; 43.2,-2 43.7,-2 ; 43.2,2 43.7,2 ; 44.2,-2 44.7,-2 ; 44.2,2 44.7,2 ; 45.2,-2 45.7,-2 ; 45.2,2 45.7,2 45.7,1.5 ; 45.7,-1.5 45.7,-1 ; 45.7,-0.5 45.7,0 ; 45.7,0.5 45.7,1 ; -35.2,-4.25 -35.2,4.25 35.2,4.25 35.2,-4.25 -35.2,-4.25
  text "2" at -26.41,0.52 h1.5
  text "1" at -25.91,-2.02 h1.5
  text "40" at 25.41,0.52 h1.5
  text "39" at 25.41,-2.02 h1.5

## 918540X923 [mm] "Connector; IDC, Thru-Hole; 40 Position; Right Angle; Pitch 2.54 mm; Body 70.40 x 8.5 x 17.30 mm (LxHxW), Without locking levers"
height 17.3
pads (42):
  rect 1.65x1.65 hole 1: 1(-24.13,-1.27)
  round 1.65 hole 1: 2(-24.13,1.27) 3(-21.59,-1.27) 4(-21.59,1.27) 5(-19.05,-1.27) 6(-19.05,1.27) 7(-16.51,-1.27) 8(-16.51,1.27) 9(-13.97,-1.27) 10(-13.97,1.27) 11(-11.43,-1.27) 12(-11.43,1.27) 13(-8.89,-1.27) 14(-8.89,1.27) 15(-6.35,-1.27) 16(-6.35,1.27) 17(-3.81,-1.27) 18(-3.81,1.27) 19(-1.27,-1.27) 20(-1.27,1.27) 21(1.27,-1.27) 22(1.27,1.27) 23(3.81,-1.27) 24(3.81,1.27) 25(6.35,-1.27) 26(6.35,1.27) 27(8.89,-1.27) 28(8.89,1.27) 29(11.43,-1.27) 30(11.43,1.27) 31(13.97,-1.27) 32(13.97,1.27) 33(16.51,-1.27) 34(16.51,1.27) 35(19.05,-1.27) 36(19.05,1.27) 37(21.59,-1.27) 38(21.59,1.27) 39(24.13,-1.27) 40(24.13,1.27)
  round 2.5 hole 2.8 unplated: MH1(-29.97,0.53) MH2(29.97,0.53)
Top Overlay:
  lines w0.2: -32.71,15.53 ccw(c-32.725,14.83) -33.37,15.102 -35.2,6.23 -35.2,-1.77 -25.355,-1.77 ; -32.66,15.53 -27.8,15.53 cw(c-27.8,14.83) -27.1,14.83 -27.1,12.73 ccw(c-26.4,12.73) -26.4,12.03 26.4,12.03 ccw(c26.4,12.73) 27.1,12.73 27.1,14.83 cw(c27.8,14.83) 27.8,15.53 32.66,15.53 ; -2.05,5.53 -2.05,12.03 ; -2.04,5.53 2.06,5.53 ; 2.05,5.534 2.05,12.03 ; 25.24,-1.77 35.2,-1.77 35.2,6.23 33.37,15.102 ccw(c32.725,14.83) 32.71,15.53
  text "39" at 22.88,-3.97 h1.5
  text "40" at 22.88,2.47 h1.5
  text "1" at -24.38,-3.97 h1.5
  text "2" at -24.63,2.47 h1.5
  text "20" at -2.52,2.47 h1.5
  text "19" at -2.52,-3.97 h1.5

## 918540X924 [mm] "Connector; IDC, Thru-Hole; 40 Position; Vertical; Pitch 2.54 mm; Body 70.40 x 8.5 x 17.30 mm (LxWxH), Without locking levers"
height 17.3
pads (42):
  rect 1.65x1.65 hole 1: 1(-24.13,-1.27)
  round 1.65 hole 1: 2(-24.13,1.27) 3(-21.59,-1.27) 4(-21.59,1.27) 5(-19.05,-1.27) 6(-19.05,1.27) 7(-16.51,-1.27) 8(-16.51,1.27) 9(-13.97,-1.27) 10(-13.97,1.27) 11(-11.43,-1.27) 12(-11.43,1.27) 13(-8.89,-1.27) 14(-8.89,1.27) 15(-6.35,-1.27) 16(-6.35,1.27) 17(-3.81,-1.27) 18(-3.81,1.27) 19(-1.27,-1.27) 20(-1.27,1.27) 21(1.27,-1.27) 22(1.27,1.27) 23(3.81,-1.27) 24(3.81,1.27) 25(6.35,-1.27) 26(6.35,1.27) 27(8.89,-1.27) 28(8.89,1.27) 29(11.43,-1.27) 30(11.43,1.27) 31(13.97,-1.27) 32(13.97,1.27) 33(16.51,-1.27) 34(16.51,1.27) 35(19.05,-1.27) 36(19.05,1.27) 37(21.59,-1.27) 38(21.59,1.27) 39(24.13,-1.27) 40(24.13,1.27)
  round 2.5 hole 2.8 unplated: MH1(-33.02,-0.25) MH2(33.02,-0.25)
Top Overlay:
  circle w0.25: c-24.13,-4.9 r0.125
  rectangle: -2.05,-4.25 2.05,-2.7
  lines w0.2: -35.2,-4.25 35.2,-4.25 35.2,4.25 -35.2,4.25 -35.2,-4.25
  text "39" at 25.41,-2.02 h1.5
  text "40" at 25.41,0.52 h1.5
  text "1" at -25.91,-2.02 h1.5
  text "2" at -26.41,0.52 h1.5

## 918550X323 [mm] "Connector; IDC, Low Profile Male Header, Thru-Hole; 50 Position; Right Angle; Pitch 2.54 mm; Body 71.32 x 8.9 x 9.2 mm (LxWxH)"
height 9.2
pads (50):
  rect 1.65x1.65 hole 1: 1(-30.48,-2.54)
  round 1.65 hole 1: 2(-30.48,0) 3(-27.94,-2.54) 4(-27.94,0) 5(-25.4,-2.54) 6(-25.4,0) 7(-22.86,-2.54) 8(-22.86,0) 9(-20.32,-2.54) 10(-20.32,0) 11(-17.78,-2.54) 12(-17.78,0) 13(-15.24,-2.54) 14(-15.24,0) 15(-12.7,-2.54) 16(-12.7,0) 17(-10.16,-2.54) 18(-10.16,0) 19(-7.62,-2.54) 20(-7.62,0) 21(-5.08,-2.54) 22(-5.08,0) 23(-2.54,-2.54) 24(-2.54,0) 25(0,-2.54) 26(0,0) 27(2.54,-2.54) 28(2.54,0) 29(5.08,-2.54) 30(5.08,0) 31(7.62,-2.54) 32(7.62,0) 33(10.16,-2.54) 34(10.16,0) 35(12.7,-2.54) 36(12.7,0) 37(15.24,-2.54) 38(15.24,0) 39(17.78,-2.54) 40(17.78,0) 41(20.32,-2.54) 42(20.32,0) 43(22.86,-2.54) 44(22.86,0) 45(25.4,-2.54) 46(25.4,0) 47(27.94,-2.54) 48(27.94,0) 49(30.48,-2.54) 50(30.48,0)
Top Overlay:
  lines w0.2: -31.705,0 -35.66,0 -35.66,9.45 35.66,9.45 35.66,0 31.705,0 ; -2.05,9.45 -2.05,3.48 2.05,3.48 2.05,9.45
  text "25" at -1.25,-5.24 h1.5
  text "26" at -1.25,1.2 h1.5
  text "50" at 29.21,1.2 h1.5
  text "49" at 29.23,-5.24 h1.5
  text "2" at -30.98,1.2 h1.5
  text "1" at -30.73,-5.24 h1.5